# EAGLE library part SGTL5000 (library Railstars)
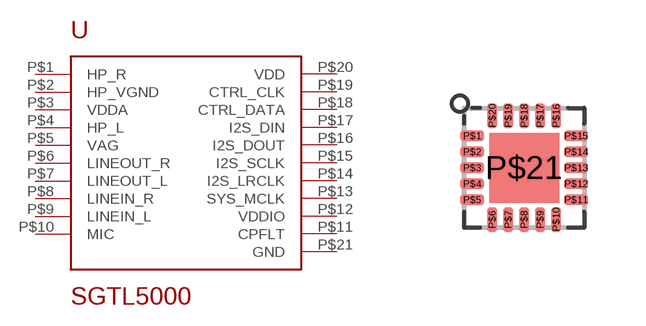
[diagram p19: symbol with the pads of QFN-20; footprint QFN-20]

Designator prefix -

## SGTL5000  [QFN-20]
P$1  HP_R
P$2  HP_VGND
P$3  VDDA
P$4  HP_L
P$5  VAG
P$6  LINEOUT_R
P$7  LINEOUT_L
P$8  LINEIN_R
P$9  LINEIN_L
P$10  MIC
P$11  CPFLT
P$12  VDDIO
P$13  SYS_MCLK
P$14  I2S_LRCLK
P$15  I2S_SCLK
P$16  I2S_DOUT
P$17  I2S_DIN
P$18  CTRL_DATA
P$19  CTRL_CLK
P$20  VDD
P$21  GND

## Footprint QFN-20 (pad centres in mm)
smd 0.6 x 0.25: P$1 -1.3,0.8; P$2 -1.3,0.4; P$3 -1.3,0; P$4 -1.3,-0.4; P$5 -1.3,-0.8; P$11 1.3,-0.8; P$12 1.3,-0.4; P$13 1.3,0; P$14 1.3,0.4; P$15 1.3,0.8
smd 0.25 x 0.6: P$6 -0.8,-1.3; P$7 -0.4,-1.3; P$8 0,-1.3; P$9 0.4,-1.3; P$10 0.8,-1.3; P$16 0.8,1.3; P$17 0.4,1.3; P$18 0,1.3; P$19 -0.4,1.3; P$20 -0.8,1.3
smd 1.75 x 1.75: P$21 0,0